# Altium schematic symbol library H3LIS331DLTR.SchLib: 1 symbol
Pins are listed as number, name and electrical type; pins without a type are passive.

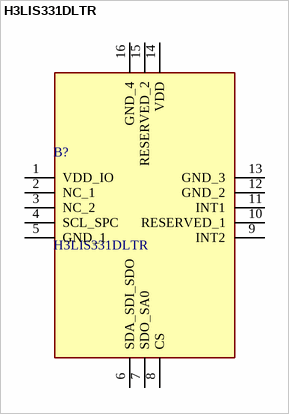
[diagram p0: symbol H3LIS331DLTR]

## H3LIS331DLTR
designator B?
Accelerometers Low Pwr Hi G 3-axis Digital Acceleromtr; Manufacturer_Name: STMicroelectronics; Geometry.Height: 1mm; Mouser Part Number: 511-H3LIS331DLTR; Mouser Price/Stock: https://www.mouser.co.uk/ProductDetail/STMicroelectronics/H3LIS331DLTR?qs=TAo1I7FhABsAZFqkqNUSRA%3D%3D; Manufacturer_Part_Number: H3LIS331DLTR; Datasheet Link: https://www.st.com/resource/en/datasheet/h3lis331dl.pdf
footprint LIS3DHTR
pins: 1 VDD_IO (power), 2 NC_1, 3 NC_2, 4 SCL_SPC, 5 GND_1, 6 SDA_SDI_SDO, 7 SDO_SA0, 8 CS, 9 INT2, 10 RESERVED_1, 11 INT1, 12 GND_2, 13 GND_3, 14 VDD (power), 15 RESERVED_2, 16 GND_4